# Altium footprint library LST0-217.PcbLib: 1 footprints
Each footprint in its own frame and in the unit in brackets; x right, y up, seen from the top. Pads: shape width x height; smd on the part's side, far side on the other; paste and mask are expansions set on the pad; w line width, h text height; cw(c..) or ccw(c..) is an arc to the next point about the centre after c.
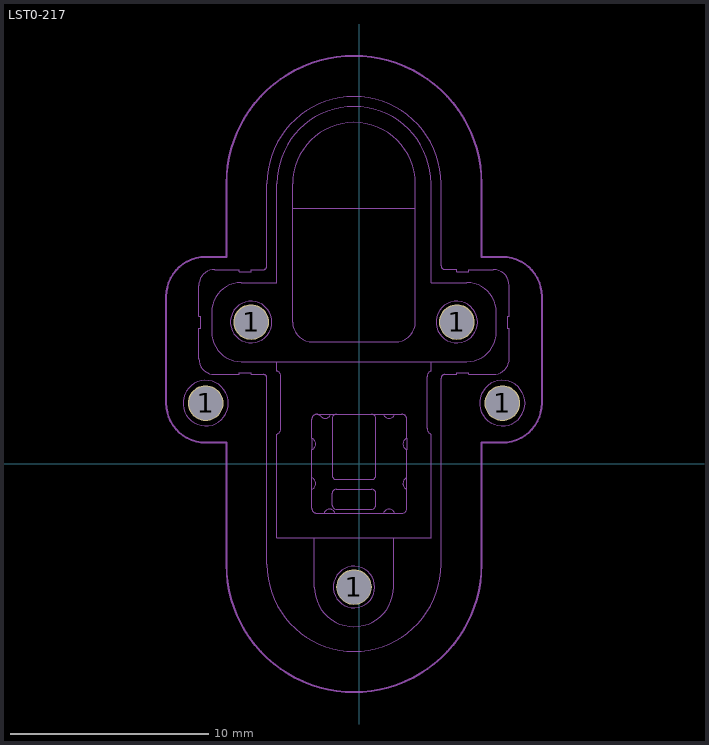
[diagram p0: the footprint, top view; thin cyan lines are the x and y axes]

## LST0-217 [mm]
pads (5):
  round 1.8 hole 1.7 mask+0.05: 1(-7.762,3.075) 1(-5.462,7.175) 1(-0.262,-6.225) 1(4.938,7.175) 1(7.237,3.075)
Top Assembly:
  drawing of 399 lines, arcs and shapes, not listed
Top Courtyard:
  lines w0.1: -9.763,3.075 ccw(c-7.762,3.075) -7.763,1.075 -6.712,1.075 -6.712,-5.091 ccw(c-0.262,-5.091) 6.188,-5.091 6.187,1.075 7.237,1.075 ccw(c7.237,3.075) 9.237,3.075 9.237,8.475 ccw(c7.237,8.475) 7.237,10.475 6.187,10.475 6.187,14.191 ccw(c-0.263,14.191) -6.713,14.191 -6.712,10.475 -7.762,10.475 ccw(c-7.762,8.475) -9.762,8.475 -9.762,3.075
3D body "PAA5102_L217lens_hood_assmbly_191113 v1.step": height 17.56, standoff -0.44, extent -9.769,-11.537 9.231,20.613